# Altium footprint library LFCSP-6-3.pcblib: 1 footprints
Each footprint in its own frame and in the unit in brackets; x right, y up, seen from the top. Pads: shape width x height; smd on the part's side, far side on the other; paste and mask are expansions set on the pad; w line width, h text height; cw(c..) or ccw(c..) is an arc to the next point about the centre after c.
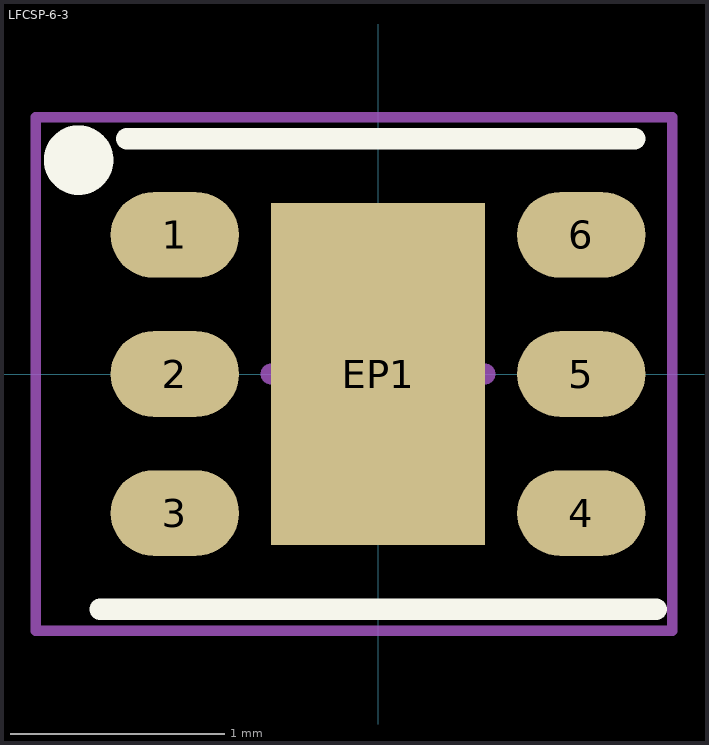
[diagram p0: the footprint, top view; thin cyan lines are the x and y axes]

## LFCSP-6-3 [mm] "LGA, 12-Leads, Body 2,00x2,00mm, Pitch 0,50mm, IPC High Density"
height 1
pads (7):
  rrect100% 0.6x0.4 smd: 1(-0.95,0.65) 2(-0.95,0) 3(-0.95,-0.65) 4(0.95,-0.65) 5(0.95,0) 6(0.95,0.65)
  rect 1x1.6 smd: EP1(0,0)
Top Overlay:
  circle w0.254: c-1.4,1 r0.035
  lines w0.1: -1.3,-1.1 1.3,-1.1 ; -1.175,1.1 1.2,1.1
Mechanical 15:
  lines w0.05: -1.6,-1.2 -1.6,1.2 1.375,1.2 1.375,-1.2 -1.6,-1.2
  lines w0.1: -0.5,0 0.5,0 ; 0,-0.5 0,0.5
Mechanical 17:
  text "'.Designator'" at -2.275,-0.375 h0.4
Mechanical 19:
  text "'.Comment'" at -1.775,-0.4 h0.4
3D body "User Library-LFCSP_UD6.step": height 0.65, standoff 0, extent -1.05,-1 1.05,1